# Altium footprint library PCB - CONNECTOR - USB - WURTH 632723300011.PCBLIB: 1 footprints
Each footprint in its own frame and in the unit in brackets; x right, y up, seen from the top. Pads: shape width x height; smd on the part's side, far side on the other; paste and mask are expansions set on the pad; w line width, h text height; cw(c..) or ccw(c..) is an arc to the next point about the centre after c.
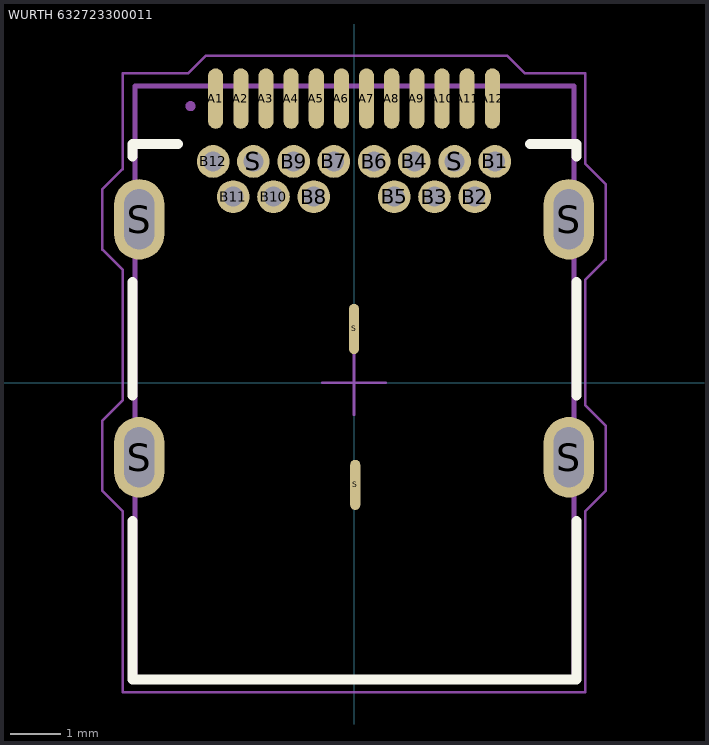
[diagram p0: the footprint, top view; thin cyan lines are the x and y axes]

## WURTH 632723300011 [mm]
height 2.96
pads (32):
  oval 0.3x1.2 smd: A1(-2.75,5.65) A2(-2.25,5.65) A3(-1.75,5.65) A4(-1.25,5.65) A5(-0.75,5.65) A6(-0.25,5.65) A7(0.25,5.65) A8(0.75,5.65) A9(1.25,5.65) A10(1.75,5.65) A11(2.25,5.65) A12(2.75,5.65)
  round 0.65 hole 0.4: B1(2.8,4.4) B2(2.4,3.7) B3(1.6,3.7) B4(1.2,4.4) B5(0.8,3.7) B6(0.4,4.4) B7(-0.4,4.4) B8(-0.8,3.7) B9(-1.2,4.4) B10(-1.6,3.7) B11(-2.4,3.7) B12(-2.8,4.4) S(-2,4.4) S(2,4.4)
  oval 1x1.6 hole 1.2 slot 0.6 at 0 deg: S(-4.27,-1.48) S(-4.27,3.25) S(4.27,-1.48) S(4.27,3.25)
  oval 0.2x1 smd: S(0,1.07) S(0.025,-2.03)
Top Overlay:
  lines w0.2: -4.4,-2.75 -4.4,-5.9 4.425,-5.9 4.425,-2.75 ; -4.4,-0.25 -4.4,2 ; -4.4,4.5 -4.4,4.75 -3.5,4.75 ; 3.5,4.75 4.425,4.75 4.425,4.5 ; 4.425,-0.25 4.425,2
Mechanical 13:
  circle w0.1: c-3.25,5.5 r0.05
  lines w0.1: -4.35,-5.9 -4.35,5.9 4.375,5.9 4.375,-5.9 -4.35,-5.9
Mechanical 15:
  lines w0.05: -0.635,0 0.635,0 ; 0,-0.635 0,0.635 ; -5,-2.15 -5,-0.75 -4.6,-0.35 -4.6,2.25 -5,2.65 -5,3.85 -4.6,4.25 -4.6,6.15 -3.3,6.15 -2.95,6.5 3.05,6.5 3.4,6.15 4.6,6.15 4.6,4.35 5,3.95 5,2.45 4.6,2.05 4.6,-0.45 5,-0.85 5,-2.15 4.6,-2.55 4.6,-6.15 -4.6,-6.15 -4.6,-2.55 -5,-2.15
3D body "Wurth - WR-COM 632723300011.step": height 3.06, standoff -1.8, extent -4.37,-5.894 4.37,5.9